# EAGLE library part MSP430FR5969_RGZ_48 (library Bat-Components)
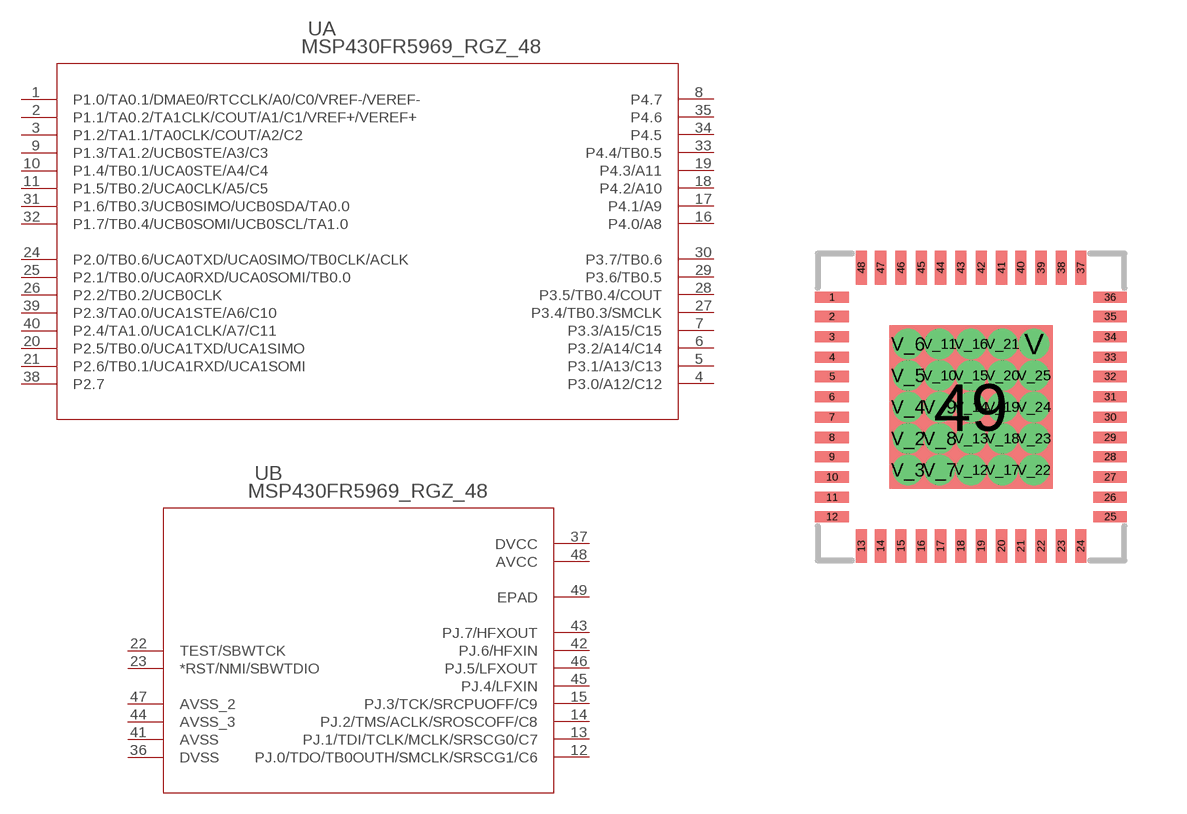
[diagram p10: symbol with the pads of RGZ48_4P1X4P1; footprint RGZ48_4P1X4P1]

Designator prefix U; gates A=MSP430FR5969_RGZ_48 B=MSP430FR5969_RGZ_48_00

## MSP430FR5969_RGZ_48 (MANUFACTURER_PART_NUMBER: msp430fr5969_rgz_48; VENDOR: Texas Instruments)  [RGZ48_4P1X4P1]
1  A:P1.0/TA0.1/DMAE0/RTCCLK/A0/C0/VREF-/VEREF-  pas
2  A:P1.1/TA0.2/TA1CLK/COUT/A1/C1/VREF+/VEREF+  pas
3  A:P1.2/TA1.1/TA0CLK/COUT/A2/C2  pas
4  A:P3.0/A12/C12  pas
5  A:P3.1/A13/C13  pas
6  A:P3.2/A14/C14  pas
7  A:P3.3/A15/C15  pas
8  A:P4.7  pas
9  A:P1.3/TA1.2/UCB0STE/A3/C3  pas
10  A:P1.4/TB0.1/UCA0STE/A4/C4  pas
11  A:P1.5/TB0.2/UCA0CLK/A5/C5  pas
12  B:PJ.0/TDO/TB0OUTH/SMCLK/SRSCG1/C6  pas
13  B:PJ.1/TDI/TCLK/MCLK/SRSCG0/C7  pas
14  B:PJ.2/TMS/ACLK/SROSCOFF/C8  pas
15  B:PJ.3/TCK/SRCPUOFF/C9  pas
16  A:P4.0/A8  pas
17  A:P4.1/A9  pas
18  A:P4.2/A10  pas
19  A:P4.3/A11  pas
20  A:P2.5/TB0.0/UCA1TXD/UCA1SIMO  pas
21  A:P2.6/TB0.1/UCA1RXD/UCA1SOMI  pas
22  B:TEST/SBWTCK  in
23  B:*RST/NMI/SBWTDIO  pas
24  A:P2.0/TB0.6/UCA0TXD/UCA0SIMO/TB0CLK/ACLK  pas
25  A:P2.1/TB0.0/UCA0RXD/UCA0SOMI/TB0.0  pas
26  A:P2.2/TB0.2/UCB0CLK  pas
27  A:P3.4/TB0.3/SMCLK  pas
28  A:P3.5/TB0.4/COUT  pas
29  A:P3.6/TB0.5  pas
30  A:P3.7/TB0.6  pas
31  A:P1.6/TB0.3/UCB0SIMO/UCB0SDA/TA0.0  pas
32  A:P1.7/TB0.4/UCB0SOMI/UCB0SCL/TA1.0  pas
33  A:P4.4/TB0.5  pas
34  A:P4.5  pas
35  A:P4.6  pas
36  B:DVSS  pwr
37  B:DVCC  pwr
38  A:P2.7  pas
39  A:P2.3/TA0.0/UCA1STE/A6/C10  pas
40  A:P2.4/TA1.0/UCA1CLK/A7/C11  pas
41  B:AVSS  pwr
42  B:PJ.6/HFXIN  pas
43  B:PJ.7/HFXOUT  pas
44  B:AVSS_3  pwr
45  B:PJ.4/LFXIN  pas
46  B:PJ.5/LFXOUT  pas
47  B:AVSS_2  pwr
48  B:AVCC  pwr
49  B:EPAD  pas

## Footprint RGZ48_4P1X4P1 (pad centres in mm)
smd 0.838 x 0.279: 1 -3.48,2.743; 2 -3.48,2.261; 3 -3.48,1.753; 4 -3.48,1.245; 5 -3.48,0.762; 6 -3.48,0.254; 7 -3.48,-0.254; 8 -3.48,-0.762; 9 -3.48,-1.245; 10 -3.48,-1.753; 11 -3.48,-2.261; 12 -3.48,-2.743; 25 3.48,-2.743; 26 3.48,-2.261; 27 3.48,-1.753; 28 3.48,-1.245; 29 3.48,-0.762; 30 3.48,-0.254; 31 3.48,0.254; 32 3.48,0.762; 33 3.48,1.245; 34 3.48,1.753; 35 3.48,2.261; 36 3.48,2.743
smd 0.279 x 0.838: 13 -2.743,-3.48; 14 -2.261,-3.48; 15 -1.753,-3.48; 16 -1.245,-3.48; 17 -0.762,-3.48; 18 -0.254,-3.48; 19 0.254,-3.48; 20 0.762,-3.48; 21 1.245,-3.48; 22 1.753,-3.48; 23 2.261,-3.48; 24 2.743,-3.48; 37 2.743,3.48; 38 2.261,3.48; 39 1.753,3.48; 40 1.245,3.48; 41 0.762,3.48; 42 0.254,3.48; 43 -0.254,3.48; 44 -0.762,3.48; 45 -1.245,3.48; 46 -1.753,3.48; 47 -2.261,3.48; 48 -2.743,3.48
smd 4.089 x 4.089: 49 0,0
drill 0.254: V 1.575,1.575; V_2 -1.575,-0.787; V_3 -1.575,-1.575; V_4 -1.575,0; V_5 -1.575,0.787; V_6 -1.575,1.575; V_7 -0.787,-1.575; V_8 -0.787,-0.787; V_9 -0.787,0; V_10 -0.787,0.787; V_11 -0.787,1.575; V_12 0,-1.575; V_13 0,-0.787; V_14 0,0; V_15 0,0.787; V_16 0,1.575; V_17 0.787,-1.575; V_18 0.787,-0.787; V_19 0.787,0; V_20 0.787,0.787; V_21 0.787,1.575; V_22 1.575,-1.575; V_23 1.575,-0.787; V_24 1.575,0; V_25 1.575,0.787